# EAGLE library part LBCA2HNZYZ-711 (library mylib)
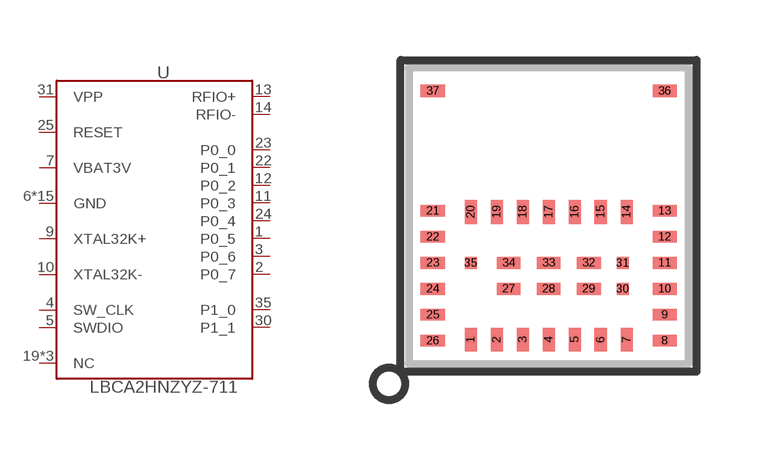
[diagram p105: symbol with the pads of IC-MURATA-LBCA2HNZYZ-711; footprint IC-MURATA-LBCA2HNZYZ-711]

Designator prefix U

## LBCA2HNZYZ-711 (DIGIKEY: 490-10561-1-ND; MOUSER: 81-LBCA2HNZYZ-711)  [IC-MURATA-LBCA2HNZYZ-711]
1  P0_5
2  P0_7
3  P0_6
4  SW_CLK
5  SWDIO
6  GND
7  VBAT3V
8  GND
9  XTAL32K+
10  XTAL32K-
11  P0_3
12  P0_2
13  RFIO+
14  RFIO-
15  GND
16  GND
17  GND
18  GND
19  NC
20  GND
21  GND
22  P0_1
23  P0_0
24  P0_4
25  RESET
26  GND
27  GND
28  GND
29  GND
30  P1_1
31  VPP
32  GND
33  GND
34  GND
35  P1_0
36  NC
37  NC

## Footprint IC-MURATA-LBCA2HNZYZ-711 (pad centres in mm)
smd 0.3 x 0.6: 1 1.55,0.6; 2 2.2,0.6; 3 2.85,0.6; 4 3.5,0.6; 5 4.15,0.6; 6 4.8,0.6; 7 5.45,0.6; 14 5.45,3.8; 15 4.8,3.8; 16 4.15,3.8; 17 3.5,3.8; 18 2.85,3.8; 19 2.2,3.8; 20 1.55,3.8
smd 0.6 x 0.3: 8 6.4,0.575; 9 6.4,1.225; 10 6.4,1.875; 11 6.4,2.525; 12 6.4,3.175; 13 6.4,3.825; 21 0.6,3.825; 22 0.6,3.175; 23 0.6,2.525; 24 0.6,1.875; 25 0.6,1.225; 26 0.6,0.575; 27 2.5,1.875; 28 3.5,1.875; 29 4.5,1.875; 32 4.5,2.525; 33 3.5,2.525; 34 2.5,2.525; 36 6.4,6.825; 37 0.6,6.825
smd 0.3 x 0.3: 30 5.35,1.875; 31 5.35,2.525; 35 1.55,2.525